# EAGLE library part CAT4106HV4-GT2 (library pimoroni-ics)
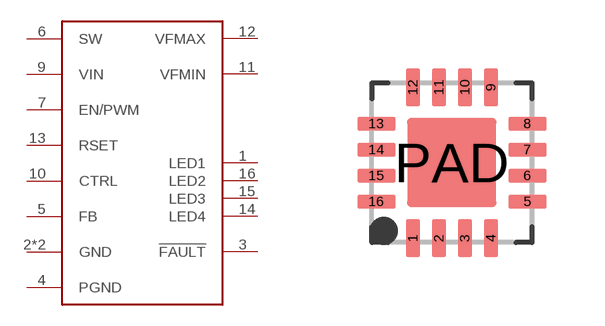
[diagram p68: symbol with the pads of TQFN-16; footprint TQFN-16]

Designator prefix -

## CAT4106HV4-GT2  [TQFN-16]
1  LED1
2  GND
3  !FAULT
4  PGND
5  FB
6  SW
7  EN/PWM
9  VIN
10  CTRL
11  VFMIN
12  VFMAX
13  RSET
14  LED4
15  LED3
16  LED2
PAD  GND

## Footprint TQFN-16 (pad centres in mm)
smd 0.35 x 0.95: 1 -0.975,-1.89; 2 -0.325,-1.89; 3 0.325,-1.89; 4 0.975,-1.89; 9 0.975,1.89; 10 0.325,1.89; 11 -0.325,1.89; 12 -0.975,1.89
smd 0.95 x 0.35: 5 1.89,-0.975; 6 1.89,-0.325; 7 1.89,0.325; 8 1.89,0.975; 13 -1.89,0.975; 14 -1.89,0.325; 15 -1.89,-0.325; 16 -1.89,-0.975
smd 2.23 x 2.23: PAD 0,0